# Altium integrated library Wuerth Elektronik SMD Power Choke.IntLib: 844 symbols (part 1 of 9)
Pins are listed as number, name and electrical type; pins without a type are passive.

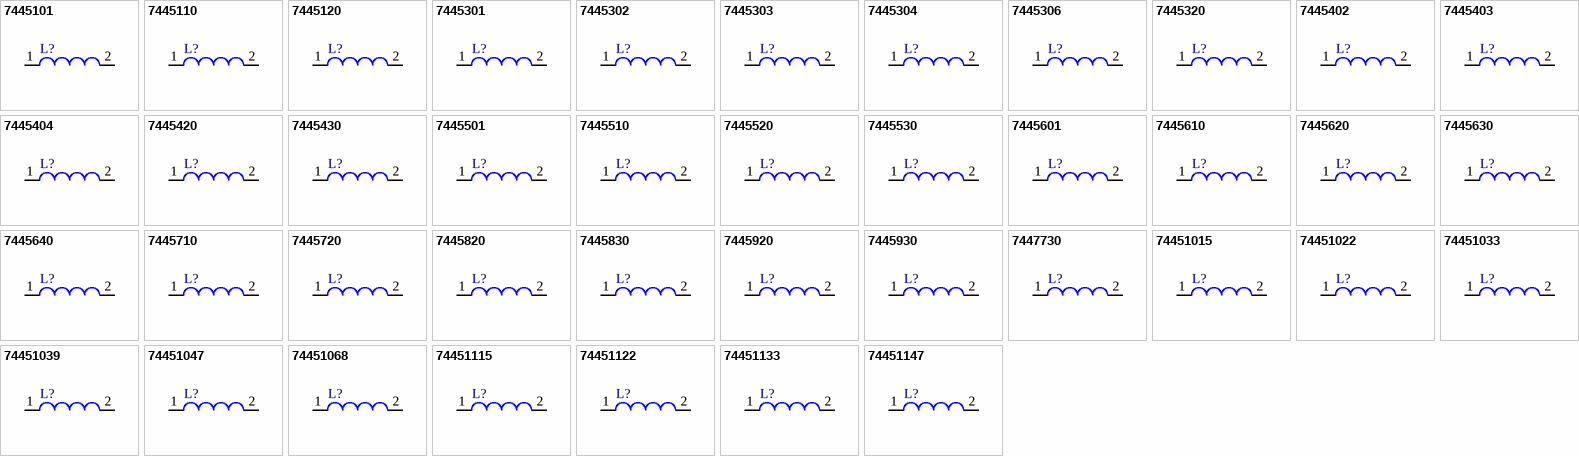
[diagram p0: symbols 7445101 to 74451147]

## 7445101
designator L?
SMD Shielded Power Inductor WE-PD3, L = 1.00 µH; Inductance: 1.00 µH; DatasheetVersion: ver 7, Feb-2009; PackageVersion: 2009; PackageReference: WE-PD3-S; PackageDescription: SMD Inductor, 2-Leads, Body 6.6 x 4.45 mm; ComponentLink1Description: Manufacturer URL; ComponentLink1URL: http://www.we-online.com; ComponentLink2Description: Datasheet; ComponentLink2URL: http://www.we-online.de/katalog/media/pdf/7445101.pdf
footprint WE-PD3-S (SMD Inductor, 2-Leads, Body 6.6x4.45x2.92 mm)
pins: 1, 2

## 7445110
designator L?
SMD Shielded Power Inductor WE-PD3, L = 10.0 µH; Inductance: 10.0 µH; DatasheetVersion: ver 7, Feb-2009; PackageVersion: 2009; PackageReference: WE-PD3-S; PackageDescription: SMD Inductor, 2-Leads, Body 6.6 x 4.45 mm; ComponentLink1Description: Manufacturer URL; ComponentLink1URL: http://www.we-online.com; ComponentLink2Description: Datasheet; ComponentLink2URL: http://www.we-online.de/katalog/media/pdf/7445110.pdf
footprint WE-PD3-S (SMD Inductor, 2-Leads, Body 6.6x4.45x2.92 mm)
pins: 1, 2

## 7445120
designator L?
SMD Shielded Power Inductor WE-PD3, L = 100 µH; Inductance: 100 µH; DatasheetVersion: ver 7, Feb-2009; PackageVersion: 2009; PackageReference: WE-PD3-S; PackageDescription: SMD Inductor, 2-Leads, Body 6.6 x 4.45 mm; ComponentLink1Description: Manufacturer URL; ComponentLink1URL: http://www.we-online.com; ComponentLink2Description: Datasheet; ComponentLink2URL: http://www.we-online.de/katalog/media/pdf/7445120.pdf
footprint WE-PD3-S (SMD Inductor, 2-Leads, Body 6.6x4.45x2.92 mm)
pins: 1, 2

## 7445301
designator L?
SMD Shielded Power Inductor WE-PD3, L = 1.50 µH; Inductance: 1.50 µH; DatasheetVersion: ver 1, Oct-2004; PackageVersion: 2004; PackageReference: WE-PD3-M; PackageDescription: SMD Inductor, 2-Leads, Body 12.7 x 10.3 mm; ComponentLink1Description: Manufacturer URL; ComponentLink1URL: http://www.we-online.com; ComponentLink2Description: Datasheet; ComponentLink2URL: http://www.we-online.de/katalog/media/pdf/7445301.pdf
footprint WE-PD3-M (SMD Inductor, 2-Leads, Body 12.7 x 10.3 mm)
pins: 1, 2

## 7445302
designator L?
SMD Shielded Power Inductor WE-PD3, L = 2.20 µH; Inductance: 2.20 µH; DatasheetVersion: ver 1, Oct-2004; PackageVersion: 2004; PackageReference: WE-PD3-M; PackageDescription: SMD Inductor, 2-Leads, Body 12.7 x 10.3 mm; ComponentLink1Description: Manufacturer URL; ComponentLink1URL: http://www.we-online.com; ComponentLink2Description: Datasheet; ComponentLink2URL: http://www.we-online.de/katalog/media/pdf/7445302.pdf
footprint WE-PD3-M (SMD Inductor, 2-Leads, Body 12.7 x 10.3 mm)
pins: 1, 2

## 7445303
designator L?
SMD Shielded Power Inductor WE-PD3, L = 3.90 µH; Inductance: 3.90 µH; DatasheetVersion: ver 1, Oct-2004; PackageVersion: 2004; PackageReference: WE-PD3-M; PackageDescription: SMD Inductor, 2-Leads, Body 12.7 x 10.3 mm; ComponentLink1Description: Manufacturer URL; ComponentLink1URL: http://www.we-online.com; ComponentLink2Description: Datasheet; ComponentLink2URL: http://www.we-online.de/katalog/media/pdf/7445303.pdf
footprint WE-PD3-M (SMD Inductor, 2-Leads, Body 12.7 x 10.3 mm)
pins: 1, 2

## 7445304
designator L?
SMD Shielded Power Inductor WE-PD3, L = 4.70 µH; Inductance: 4.70 µH; DatasheetVersion: ver 1, Oct-2004; PackageVersion: 2004; PackageReference: WE-PD3-M; PackageDescription: SMD Inductor, 2-Leads, Body 12.7 x 10.3 mm; ComponentLink1Description: Manufacturer URL; ComponentLink1URL: http://www.we-online.com; ComponentLink2Description: Datasheet; ComponentLink2URL: http://www.we-online.de/katalog/media/pdf/7445304.pdf
footprint WE-PD3-M (SMD Inductor, 2-Leads, Body 12.7 x 10.3 mm)
pins: 1, 2

## 7445306
designator L?
SMD Shielded Power Inductor WE-PD3, L = 6.80 µH; Inductance: 6.80 µH; DatasheetVersion: ver 2, May-2008; PackageVersion: 2004; PackageReference: WE-PD3-M; PackageDescription: SMD Inductor, 2-Leads, Body 12.7 x 10.3 mm; ComponentLink1Description: Manufacturer URL; ComponentLink1URL: http://www.we-online.com; ComponentLink2Description: Datasheet; ComponentLink2URL: http://www.we-online.de/katalog/media/pdf/7445306.pdf
footprint WE-PD3-M (SMD Inductor, 2-Leads, Body 12.7 x 10.3 mm)
pins: 1, 2

## 7445320
designator L?
SMD Shielded Power Inductor WE-PD3, L = 100 µH; Inductance: 100 µH; DatasheetVersion: ver 1, Oct-2004; PackageVersion: 2004; PackageReference: WE-PD3-M; PackageDescription: SMD Inductor, 2-Leads, Body 12.7 x 10.3 mm; ComponentLink1Description: Manufacturer URL; ComponentLink1URL: http://www.we-online.com; ComponentLink2Description: Datasheet; ComponentLink2URL: http://www.we-online.de/katalog/media/pdf/7445320.pdf
footprint WE-PD3-M (SMD Inductor, 2-Leads, Body 12.7 x 10.3 mm)
pins: 1, 2

## 7445402
designator L?
SMD Shielded Power Inductor WE-PD3, L = 2.20 µH; Inductance: 2.20 µH; DatasheetVersion: ver 2, Sep-2006; PackageVersion: 2006; PackageReference: WE-PD3-L; PackageDescription: SMD Inductor, 2-Leads, Body 12.7 x 10.0 mm; ComponentLink1Description: Manufacturer URL; ComponentLink1URL: http://www.we-online.com; ComponentLink2Description: Datasheet; ComponentLink2URL: http://www.we-online.de/katalog/media/pdf/7445402.pdf
footprint WE-PD3-L (SMD Inductor, 2-Leads, Body 12.7x10.0x5.2 mm)
pins: 1, 2

## 7445403
designator L?
SMD Shielded Power Inductor WE-PD3, L = 3.00 µH; Inductance: 3.00 µH; DatasheetVersion: ver 2, Sep-2006; PackageVersion: 2006; PackageReference: WE-PD3-L; PackageDescription: SMD Inductor, 2-Leads, Body 12.7 x 10.0 mm; ComponentLink1Description: Manufacturer URL; ComponentLink1URL: http://www.we-online.com; ComponentLink2Description: Datasheet; ComponentLink2URL: http://www.we-online.de/katalog/media/pdf/7445403.pdf
footprint WE-PD3-L (SMD Inductor, 2-Leads, Body 12.7x10.0x5.2 mm)
pins: 1, 2

## 7445404
designator L?
SMD Shielded Power Inductor WE-PD3, L = 4.70 µH; Inductance: 4.70 µH; DatasheetVersion: ver 2, Sep-2006; PackageVersion: 2006; PackageReference: WE-PD3-L; PackageDescription: SMD Inductor, 2-Leads, Body 12.7 x 10.0 mm; ComponentLink1Description: Manufacturer URL; ComponentLink1URL: http://www.we-online.com; ComponentLink2Description: Datasheet; ComponentLink2URL: http://www.we-online.de/katalog/media/pdf/7445404.pdf
footprint WE-PD3-L (SMD Inductor, 2-Leads, Body 12.7x10.0x5.2 mm)
pins: 1, 2

## 7445420
designator L?
SMD Shielded Power Inductor WE-PD3, L = 100 µH; Inductance: 100 µH; DatasheetVersion: ver 2, Sep-2006; PackageVersion: 2006; PackageReference: WE-PD3-L; PackageDescription: SMD Inductor, 2-Leads, Body 12.7 x 10.0 mm; ComponentLink1Description: Manufacturer URL; ComponentLink1URL: http://www.we-online.com; ComponentLink2Description: Datasheet; ComponentLink2URL: http://www.we-online.de/katalog/media/pdf/7445420.pdf
footprint WE-PD3-L (SMD Inductor, 2-Leads, Body 12.7x10.0x5.2 mm)
pins: 1, 2

## 7445430
designator L?
SMD Shielded Power Inductor WE-PD3, L = 1000 µH; Inductance: 1000 µH; DatasheetVersion: ver 2, Sep-2006; PackageVersion: 2006; PackageReference: WE-PD3-L; PackageDescription: SMD Inductor, 2-Leads, Body 12.7 x 10.0 mm; ComponentLink1Description: Manufacturer URL; ComponentLink1URL: http://www.we-online.com; ComponentLink2Description: Datasheet; ComponentLink2URL: http://www.we-online.de/katalog/media/pdf/7445430.pdf
footprint WE-PD3-L (SMD Inductor, 2-Leads, Body 12.7x10.0x5.2 mm)
pins: 1, 2

## 7445501
designator L?
SMD-Power Inductor WE-PD4, L = 1.00 µH; Inductance: 1.00 µH; DatasheetVersion: ver 2, Feb-2009; PackageVersion: 2009; PackageReference: WE-PD4-S; PackageDescription: SMD Inductor, 2-Leads, Body 6.6 x 4.45 mm; ComponentLink1Description: Manufacturer URL; ComponentLink1URL: http://www.we-online.com; ComponentLink2Description: Datasheet; ComponentLink2URL: http://www.we-online.de/katalog/media/pdf/7445501.pdf
footprint WE-PD4-S (SMD Inductor, 2-Leads, Body 6.6x4.45x2.92 mm)
pins: 1, 2

## 7445510
designator L?
SMD-Power Inductor WE-PD4, L = 10.0 µH; Inductance: 10.0 µH; DatasheetVersion: ver 2, Feb-2009; PackageVersion: 2009; PackageReference: WE-PD4-S; PackageDescription: SMD Inductor, 2-Leads, Body 6.6 x 4.45 mm; ComponentLink1Description: Manufacturer URL; ComponentLink1URL: http://www.we-online.com; ComponentLink2Description: Datasheet; ComponentLink2URL: http://www.we-online.de/katalog/media/pdf/7445510.pdf
footprint WE-PD4-S (SMD Inductor, 2-Leads, Body 6.6x4.45x2.92 mm)
pins: 1, 2

## 7445520
designator L?
SMD-Power Inductor WE-PD4, L = 100 µH; Inductance: 100 µH; DatasheetVersion: ver 2, Feb-2009; PackageVersion: 2009; PackageReference: WE-PD4-S; PackageDescription: SMD Inductor, 2-Leads, Body 6.6 x 4.45 mm; ComponentLink1Description: Manufacturer URL; ComponentLink1URL: http://www.we-online.com; ComponentLink2Description: Datasheet; ComponentLink2URL: http://www.we-online.de/katalog/media/pdf/7445520.pdf
footprint WE-PD4-S (SMD Inductor, 2-Leads, Body 6.6x4.45x2.92 mm)
pins: 1, 2

## 7445530
designator L?
SMD-Power Inductor WE-PD4, L = 1000 µH; Inductance: 1000 µH; DatasheetVersion: ver 2, Feb-2009; PackageVersion: 2009; PackageReference: WE-PD4-S; PackageDescription: SMD Inductor, 2-Leads, Body 6.6 x 4.45 mm; ComponentLink1Description: Manufacturer URL; ComponentLink1URL: http://www.we-online.com; ComponentLink2Description: Datasheet; ComponentLink2URL: http://www.we-online.de/katalog/media/pdf/7445530.pdf
footprint WE-PD4-S (SMD Inductor, 2-Leads, Body 6.6x4.45x2.92 mm)
pins: 1, 2

## 7445601
designator L?
SMD-Power Inductor WE-PD4, L = 1.00 µH; Inductance: 1.00 µH; DatasheetVersion: ver 2, Sep-2006; PackageVersion: 2006; PackageReference: WE-PD4-L; PackageDescription: SMD Inductor, 2-Leads, Body 12.7 x 10.0 mm; ComponentLink1Description: Manufacturer URL; ComponentLink1URL: http://www.we-online.com; ComponentLink2Description: Datasheet; ComponentLink2URL: http://www.we-online.de/katalog/media/pdf/7445601.pdf
footprint WE-PD4-L (SMD Inductor, 2-Leads, Body 12.7x10.0x5.3 mm)
pins: 1, 2

## 7445610
designator L?
SMD-Power Inductor WE-PD4, L = 10.0 µH; Inductance: 10.0 µH; DatasheetVersion: ver 2, Sep-2006; PackageVersion: 2006; PackageReference: WE-PD4-L; PackageDescription: SMD Inductor, 2-Leads, Body 12.7 x 10.0 mm; ComponentLink1Description: Manufacturer URL; ComponentLink1URL: http://www.we-online.com; ComponentLink2Description: Datasheet; ComponentLink2URL: http://www.we-online.de/katalog/media/pdf/7445610.pdf
footprint WE-PD4-L (SMD Inductor, 2-Leads, Body 12.7x10.0x5.3 mm)
pins: 1, 2

## 7445620
designator L?
SMD-Power Inductor WE-PD4, L = 100 µH; Inductance: 100 µH; DatasheetVersion: ver 2, Sep-2006; PackageVersion: 2006; PackageReference: WE-PD4-L; PackageDescription: SMD Inductor, 2-Leads, Body 12.7 x 10.0 mm; ComponentLink1Description: Manufacturer URL; ComponentLink1URL: http://www.we-online.com; ComponentLink2Description: Datasheet; ComponentLink2URL: http://www.we-online.de/katalog/media/pdf/7445620.pdf
footprint WE-PD4-L (SMD Inductor, 2-Leads, Body 12.7x10.0x5.3 mm)
pins: 1, 2

## 7445630
designator L?
SMD-Power Inductor WE-PD4, L = 1000 µH; Inductance: 1000 µH; DatasheetVersion: ver 2, Sep-2006; PackageVersion: 2006; PackageReference: WE-PD4-L; PackageDescription: SMD Inductor, 2-Leads, Body 12.7 x 10.0 mm; ComponentLink1Description: Manufacturer URL; ComponentLink1URL: http://www.we-online.com; ComponentLink2Description: Datasheet; ComponentLink2URL: http://www.we-online.de/katalog/media/pdf/7445630.pdf
footprint WE-PD4-L (SMD Inductor, 2-Leads, Body 12.7x10.0x5.3 mm)
pins: 1, 2

## 7445640
designator L?
SMD-Power Inductor WE-PD4, L = 10.0 mH; Inductance: 10.0 mH; DatasheetVersion: ver 2, Sep-2006; PackageVersion: 2006; PackageReference: WE-PD4-L; PackageDescription: SMD Inductor, 2-Leads, Body 12.7 x 10.0 mm; ComponentLink1Description: Manufacturer URL; ComponentLink1URL: http://www.we-online.com; ComponentLink2Description: Datasheet; ComponentLink2URL: http://www.we-online.de/katalog/media/pdf/7445640.pdf
footprint WE-PD4-L (SMD Inductor, 2-Leads, Body 12.7x10.0x5.3 mm)
pins: 1, 2

## 7445710
designator L?
SMD-Power Inductor WE-PD4, L = 10.0 µH; Inductance: 10.0 µH; DatasheetVersion: ver 1, Oct-2004; PackageVersion: 2004; PackageReference: WE-PD4-XL; PackageDescription: SMD Inductor, 2-Leads, Body 22.0 x 15.0 mm; ComponentLink1Description: Manufacturer URL; ComponentLink1URL: http://www.we-online.com; ComponentLink2Description: Datasheet; ComponentLink2URL: http://www.we-online.de/katalog/media/pdf/7445710.pdf
footprint WE-PD4-XL (SMD Inductor, 2-Leads, Body 22.0x15.0x7.8 mm)
pins: 1, 2

## 7445720
designator L?
SMD-Power Inductor WE-PD4, L = 100 µH; Inductance: 100 µH; DatasheetVersion: ver 1, Oct-2004; PackageVersion: 2004; PackageReference: WE-PD4-XL; PackageDescription: SMD Inductor, 2-Leads, Body 22.0 x 15.0 mm; ComponentLink1Description: Manufacturer URL; ComponentLink1URL: http://www.we-online.com; ComponentLink2Description: Datasheet; ComponentLink2URL: http://www.we-online.de/katalog/media/pdf/7445720.pdf
footprint WE-PD4-XL (SMD Inductor, 2-Leads, Body 22.0x15.0x7.8 mm)
pins: 1, 2

## 7445820
designator L?
SMD-Power Inductor WE-PD4, L = 100 µH; Inductance: 100 µH; DatasheetVersion: ver 1, Oct-2004; PackageVersion: 2004; PackageReference: WE-PD4-X; PackageDescription: SMD Inductor, 2-Leads, Body 18.54 x 15.24 mm; ComponentLink1Description: Manufacturer URL; ComponentLink1URL: http://www.we-online.com; ComponentLink2Description: Datasheet; ComponentLink2URL: http://www.we-online.de/katalog/media/pdf/7445820.pdf
footprint WE-PD4-X (SMD Inductor, 2-Leads, Body 18.54x15.24x7.11 mm)
pins: 1, 2

## 7445830
designator L?
SMD-Power Inductor WE-PD4, L = 1000 µH; Inductance: 1000 µH; DatasheetVersion: ver 1, Oct-2004; PackageVersion: 2004; PackageReference: WE-PD4-X; PackageDescription: SMD Inductor, 2-Leads, Body 18.54 x 15.24 mm; ComponentLink1Description: Manufacturer URL; ComponentLink1URL: http://www.we-online.com; ComponentLink2Description: Datasheet; ComponentLink2URL: http://www.we-online.de/katalog/media/pdf/7445830.pdf
footprint WE-PD4-X (SMD Inductor, 2-Leads, Body 18.54x15.24x7.11 mm)
pins: 1, 2

## 7445920
designator L?
SMD Shielded Power Inductor WE-PD3, L = 100 µH; Inductance: 100 µH; DatasheetVersion: ver 1, Oct-2004; PackageVersion: 2004; PackageReference: WE-PD3-X; PackageDescription: SMD Inductor, 2-Leads, Body 18.54 x 15.24 mm; ComponentLink1Description: Manufacturer URL; ComponentLink1URL: http://www.we-online.com; ComponentLink2Description: Datasheet; ComponentLink2URL: http://www.we-online.de/katalog/media/pdf/7445920.pdf
footprint WE-PD3-X (SMD Inductor, 2-Leads, Body 18.54x15.24x7.62 mm)
pins: 1, 2

## 7445930
designator L?
SMD Shielded Power Inductor WE-PD3, L = 1000 µH; Inductance: 1000 µH; DatasheetVersion: ver 1, Oct-2004; PackageVersion: 2004; PackageReference: WE-PD3-X; PackageDescription: SMD Inductor, 2-Leads, Body 18.54 x 15.24 mm; ComponentLink1Description: Manufacturer URL; ComponentLink1URL: http://www.we-online.com; ComponentLink2Description: Datasheet; ComponentLink2URL: http://www.we-online.de/katalog/media/pdf/7445930.pdf
footprint WE-PD3-X (SMD Inductor, 2-Leads, Body 18.54x15.24x7.62 mm)
pins: 1, 2

## 7447730
designator L?
SMD Power Inductor WE-PD2, L = 1.00 µH; Inductance: 1.00 µH; DatasheetVersion: ver 1, Oct-2004; PackageVersion: 2004; PackageReference: WE-PD2-S; PackageDescription: SMD Inductor, 2-Leads, Body 4.5 x 4.0 mm; ComponentLink1Description: Manufacturer URL; ComponentLink1URL: http://www.we-online.com; ComponentLink2Description: Datasheet; ComponentLink2URL: http://www.we-online.de/katalog/media/pdf/7447730.pdf
footprint WE-PD2-S (SMD Inductor, 2-Leads, Body 4.5x4.0x3.5 mm)
pins: 1, 2

## 74451015
designator L?
SMD Shielded Power Inductor WE-PD3, L = 1.50 µH; Inductance: 1.50 µH; DatasheetVersion: ver 7, Feb-2009; PackageVersion: 2009; PackageReference: WE-PD3-S; PackageDescription: SMD Inductor, 2-Leads, Body 6.6 x 4.45 mm; ComponentLink1Description: Manufacturer URL; ComponentLink1URL: http://www.we-online.com; ComponentLink2Description: Datasheet; ComponentLink2URL: http://www.we-online.de/katalog/media/pdf/74451015.pdf
footprint WE-PD3-S (SMD Inductor, 2-Leads, Body 6.6x4.45x2.92 mm)
pins: 1, 2

## 74451022
designator L?
SMD Shielded Power Inductor WE-PD3, L = 2.20 µH; Inductance: 2.20 µH; DatasheetVersion: ver 7, Feb-2009; PackageVersion: 2009; PackageReference: WE-PD3-S; PackageDescription: SMD Inductor, 2-Leads, Body 6.6 x 4.45 mm; ComponentLink1Description: Manufacturer URL; ComponentLink1URL: http://www.we-online.com; ComponentLink2Description: Datasheet; ComponentLink2URL: http://www.we-online.de/katalog/media/pdf/74451022.pdf
footprint WE-PD3-S (SMD Inductor, 2-Leads, Body 6.6x4.45x2.92 mm)
pins: 1, 2

## 74451033
designator L?
SMD Shielded Power Inductor WE-PD3, L = 3.30 µH; Inductance: 3.30 µH; DatasheetVersion: ver 7, Feb-2009; PackageVersion: 2009; PackageReference: WE-PD3-S; PackageDescription: SMD Inductor, 2-Leads, Body 6.6 x 4.45 mm; ComponentLink1Description: Manufacturer URL; ComponentLink1URL: http://www.we-online.com; ComponentLink2Description: Datasheet; ComponentLink2URL: http://www.we-online.de/katalog/media/pdf/74451033.pdf
footprint WE-PD3-S (SMD Inductor, 2-Leads, Body 6.6x4.45x2.92 mm)
pins: 1, 2

## 74451039
designator L?
SMD Shielded Power Inductor WE-PD3, L = 3.90 µH; Inductance: 3.90 µH; DatasheetVersion: ver 7, Feb-2009; PackageVersion: 2009; PackageReference: WE-PD3-S; PackageDescription: SMD Inductor, 2-Leads, Body 6.6 x 4.45 mm; ComponentLink1Description: Manufacturer URL; ComponentLink1URL: http://www.we-online.com; ComponentLink2Description: Datasheet; ComponentLink2URL: http://www.we-online.de/katalog/media/pdf/74451039.pdf
footprint WE-PD3-S (SMD Inductor, 2-Leads, Body 6.6x4.45x2.92 mm)
pins: 1, 2

## 74451047
designator L?
SMD Shielded Power Inductor WE-PD3, L = 4.70 µH; Inductance: 4.70 µH; DatasheetVersion: ver 7, Feb-2009; PackageVersion: 2009; PackageReference: WE-PD3-S; PackageDescription: SMD Inductor, 2-Leads, Body 6.6 x 4.45 mm; ComponentLink1Description: Manufacturer URL; ComponentLink1URL: http://www.we-online.com; ComponentLink2Description: Datasheet; ComponentLink2URL: http://www.we-online.de/katalog/media/pdf/74451047.pdf
footprint WE-PD3-S (SMD Inductor, 2-Leads, Body 6.6x4.45x2.92 mm)
pins: 1, 2

## 74451068
designator L?
SMD Shielded Power Inductor WE-PD3, L = 6.80 µH; Inductance: 6.80 µH; DatasheetVersion: ver 7, Feb-2009; PackageVersion: 2009; PackageReference: WE-PD3-S; PackageDescription: SMD Inductor, 2-Leads, Body 6.6 x 4.45 mm; ComponentLink1Description: Manufacturer URL; ComponentLink1URL: http://www.we-online.com; ComponentLink2Description: Datasheet; ComponentLink2URL: http://www.we-online.de/katalog/media/pdf/74451068.pdf
footprint WE-PD3-S (SMD Inductor, 2-Leads, Body 6.6x4.45x2.92 mm)
pins: 1, 2

## 74451115
designator L?
SMD Shielded Power Inductor WE-PD3, L = 15.0 µH; Inductance: 15.0 µH; DatasheetVersion: ver 7, Feb-2009; PackageVersion: 2009; PackageReference: WE-PD3-S; PackageDescription: SMD Inductor, 2-Leads, Body 6.6 x 4.45 mm; ComponentLink1Description: Manufacturer URL; ComponentLink1URL: http://www.we-online.com; ComponentLink2Description: Datasheet; ComponentLink2URL: http://www.we-online.de/katalog/media/pdf/74451115.pdf
footprint WE-PD3-S (SMD Inductor, 2-Leads, Body 6.6x4.45x2.92 mm)
pins: 1, 2

## 74451122
designator L?
SMD Shielded Power Inductor WE-PD3, L = 22.0 µH; Inductance: 22.0 µH; DatasheetVersion: ver 7, Feb-2009; PackageVersion: 2009; PackageReference: WE-PD3-S; PackageDescription: SMD Inductor, 2-Leads, Body 6.6 x 4.45 mm; ComponentLink1Description: Manufacturer URL; ComponentLink1URL: http://www.we-online.com; ComponentLink2Description: Datasheet; ComponentLink2URL: http://www.we-online.de/katalog/media/pdf/74451122.pdf
footprint WE-PD3-S (SMD Inductor, 2-Leads, Body 6.6x4.45x2.92 mm)
pins: 1, 2

## 74451133
designator L?
SMD Shielded Power Inductor WE-PD3, L = 33.0 µH; Inductance: 33.0 µH; DatasheetVersion: ver 7, Feb-2009; PackageVersion: 2009; PackageReference: WE-PD3-S; PackageDescription: SMD Inductor, 2-Leads, Body 6.6 x 4.45 mm; ComponentLink1Description: Manufacturer URL; ComponentLink1URL: http://www.we-online.com; ComponentLink2Description: Datasheet; ComponentLink2URL: http://www.we-online.de/katalog/media/pdf/74451133.pdf
footprint WE-PD3-S (SMD Inductor, 2-Leads, Body 6.6x4.45x2.92 mm)
pins: 1, 2

## 74451147
designator L?
SMD Shielded Power Inductor WE-PD3, L = 47.0 µH; Inductance: 47.0 µH; DatasheetVersion: ver 7, Feb-2009; PackageVersion: 2009; PackageReference: WE-PD3-S; PackageDescription: SMD Inductor, 2-Leads, Body 6.6 x 4.45 mm; ComponentLink1Description: Manufacturer URL; ComponentLink1URL: http://www.we-online.com; ComponentLink2Description: Datasheet; ComponentLink2URL: http://www.we-online.de/katalog/media/pdf/74451147.pdf
footprint WE-PD3-S (SMD Inductor, 2-Leads, Body 6.6x4.45x2.92 mm)
pins: 1, 2

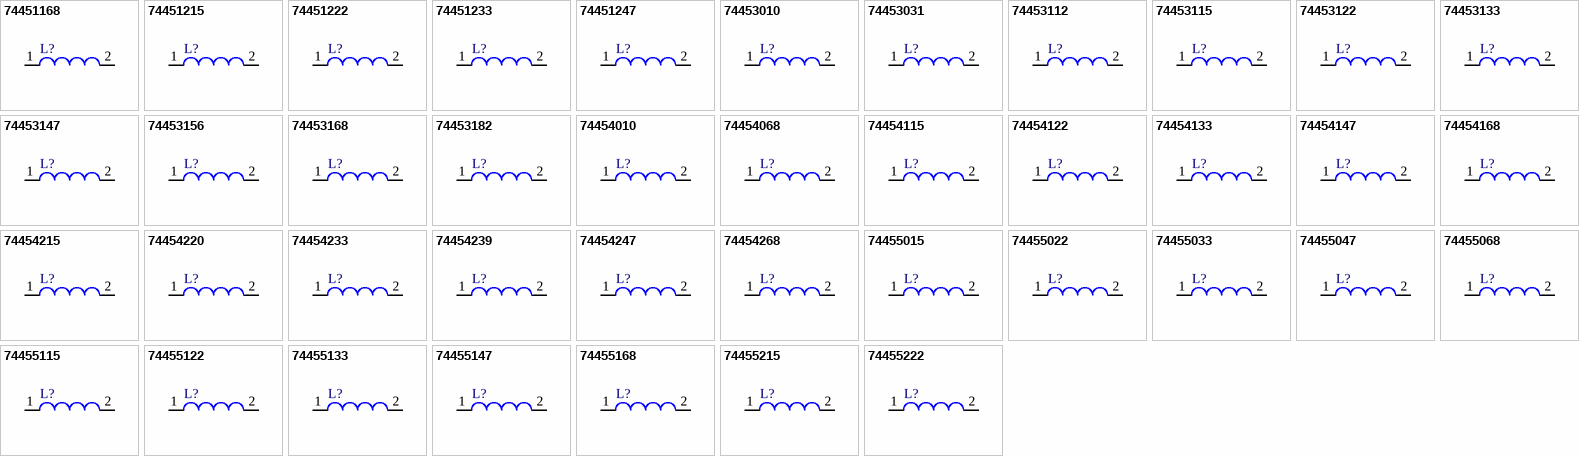
[diagram p1: symbols 74451168 to 74455222]

## 74451168
designator L?
SMD Shielded Power Inductor WE-PD3, L = 68.0 µH; Inductance: 68.0 µH; DatasheetVersion: ver 7, Feb-2009; PackageVersion: 2009; PackageReference: WE-PD3-S; PackageDescription: SMD Inductor, 2-Leads, Body 6.6 x 4.45 mm; ComponentLink1Description: Manufacturer URL; ComponentLink1URL: http://www.we-online.com; ComponentLink2Description: Datasheet; ComponentLink2URL: http://www.we-online.de/katalog/media/pdf/74451168.pdf
footprint WE-PD3-S (SMD Inductor, 2-Leads, Body 6.6x4.45x2.92 mm)
pins: 1, 2

## 74451215
designator L?
SMD Shielded Power Inductor WE-PD3, L = 150 µH; Inductance: 150 µH; DatasheetVersion: ver 7, Feb-2009; PackageVersion: 2009; PackageReference: WE-PD3-S; PackageDescription: SMD Inductor, 2-Leads, Body 6.6 x 4.45 mm; ComponentLink1Description: Manufacturer URL; ComponentLink1URL: http://www.we-online.com; ComponentLink2Description: Datasheet; ComponentLink2URL: http://www.we-online.de/katalog/media/pdf/74451215.pdf
footprint WE-PD3-S (SMD Inductor, 2-Leads, Body 6.6x4.45x2.92 mm)
pins: 1, 2

## 74451222
designator L?
SMD Shielded Power Inductor WE-PD3, L = 220 µH; Inductance: 220 µH; DatasheetVersion: ver 7, Feb-2009; PackageVersion: 2009; PackageReference: WE-PD3-S; PackageDescription: SMD Inductor, 2-Leads, Body 6.6 x 4.45 mm; ComponentLink1Description: Manufacturer URL; ComponentLink1URL: http://www.we-online.com; ComponentLink2Description: Datasheet; ComponentLink2URL: http://www.we-online.de/katalog/media/pdf/74451222.pdf
footprint WE-PD3-S (SMD Inductor, 2-Leads, Body 6.6x4.45x2.92 mm)
pins: 1, 2

## 74451233
designator L?
SMD Shielded Power Inductor WE-PD3, L = 330 µH; Inductance: 330 µH; DatasheetVersion: ver 7, Feb-2009; PackageVersion: 2009; PackageReference: WE-PD3-S; PackageDescription: SMD Inductor, 2-Leads, Body 6.6 x 4.45 mm; ComponentLink1Description: Manufacturer URL; ComponentLink1URL: http://www.we-online.com; ComponentLink2Description: Datasheet; ComponentLink2URL: http://www.we-online.de/katalog/media/pdf/74451233.pdf
footprint WE-PD3-S (SMD Inductor, 2-Leads, Body 6.6x4.45x2.92 mm)
pins: 1, 2

## 74451247
designator L?
SMD Shielded Power Inductor WE-PD3, L = 470 µH; Inductance: 470 µH; DatasheetVersion: ver 7, Feb-2009; PackageVersion: 2009; PackageReference: WE-PD3-S; PackageDescription: SMD Inductor, 2-Leads, Body 6.6 x 4.45 mm; ComponentLink1Description: Manufacturer URL; ComponentLink1URL: http://www.we-online.com; ComponentLink2Description: Datasheet; ComponentLink2URL: http://www.we-online.de/katalog/media/pdf/74451247.pdf
footprint WE-PD3-S (SMD Inductor, 2-Leads, Body 6.6x4.45x2.92 mm)
pins: 1, 2

## 74453010
designator L?
SMD Shielded Power Inductor WE-PD3, L = 10.0 µH; Inductance: 10.0 µH; DatasheetVersion: ver 1, Oct-2004; PackageVersion: 2004; PackageReference: WE-PD3-M; PackageDescription: SMD Inductor, 2-Leads, Body 12.7 x 10.3 mm; ComponentLink1Description: Manufacturer URL; ComponentLink1URL: http://www.we-online.com; ComponentLink2Description: Datasheet; ComponentLink2URL: http://www.we-online.de/katalog/media/pdf/74453010.pdf
footprint WE-PD3-M (SMD Inductor, 2-Leads, Body 12.7 x 10.3 mm)
pins: 1, 2

## 74453031
designator L?
SMD Shielded Power Inductor WE-PD3, L = 3.30 µH; Inductance: 3.30 µH; DatasheetVersion: ver 1, Oct-2004; PackageVersion: 2004; PackageReference: WE-PD3-M; PackageDescription: SMD Inductor, 2-Leads, Body 12.7 x 10.3 mm; ComponentLink1Description: Manufacturer URL; ComponentLink1URL: http://www.we-online.com; ComponentLink2Description: Datasheet; ComponentLink2URL: http://www.we-online.de/katalog/media/pdf/74453031.pdf
footprint WE-PD3-M (SMD Inductor, 2-Leads, Body 12.7 x 10.3 mm)
pins: 1, 2

## 74453112
designator L?
SMD Shielded Power Inductor WE-PD3, L = 12.0 µH; Inductance: 12.0 µH; DatasheetVersion: ver 1, Oct-2004; PackageVersion: 2004; PackageReference: WE-PD3-M; PackageDescription: SMD Inductor, 2-Leads, Body 12.7 x 10.3 mm; ComponentLink1Description: Manufacturer URL; ComponentLink1URL: http://www.we-online.com; ComponentLink2Description: Datasheet; ComponentLink2URL: http://www.we-online.de/katalog/media/pdf/74453112.pdf
footprint WE-PD3-M (SMD Inductor, 2-Leads, Body 12.7 x 10.3 mm)
pins: 1, 2

## 74453115
designator L?
SMD Shielded Power Inductor WE-PD3, L = 15.0 µH; Inductance: 15.0 µH; DatasheetVersion: ver 1, Oct-2004; PackageVersion: 2004; PackageReference: WE-PD3-M; PackageDescription: SMD Inductor, 2-Leads, Body 12.7 x 10.3 mm; ComponentLink1Description: Manufacturer URL; ComponentLink1URL: http://www.we-online.com; ComponentLink2Description: Datasheet; ComponentLink2URL: http://www.we-online.de/katalog/media/pdf/74453115.pdf
footprint WE-PD3-M (SMD Inductor, 2-Leads, Body 12.7 x 10.3 mm)
pins: 1, 2

## 74453122
designator L?
SMD Shielded Power Inductor WE-PD3, L = 22.0 µH; Inductance: 22.0 µH; DatasheetVersion: ver 1, Oct-2004; PackageVersion: 2004; PackageReference: WE-PD3-M; PackageDescription: SMD Inductor, 2-Leads, Body 12.7 x 10.3 mm; ComponentLink1Description: Manufacturer URL; ComponentLink1URL: http://www.we-online.com; ComponentLink2Description: Datasheet; ComponentLink2URL: http://www.we-online.de/katalog/media/pdf/74453122.pdf
footprint WE-PD3-M (SMD Inductor, 2-Leads, Body 12.7 x 10.3 mm)
pins: 1, 2

## 74453133
designator L?
SMD Shielded Power Inductor WE-PD3, L = 33.0 µH; Inductance: 33.0 µH; DatasheetVersion: ver 1, Oct-2004; PackageVersion: 2004; PackageReference: WE-PD3-M; PackageDescription: SMD Inductor, 2-Leads, Body 12.7 x 10.3 mm; ComponentLink1Description: Manufacturer URL; ComponentLink1URL: http://www.we-online.com; ComponentLink2Description: Datasheet; ComponentLink2URL: http://www.we-online.de/katalog/media/pdf/74453133.pdf
footprint WE-PD3-M (SMD Inductor, 2-Leads, Body 12.7 x 10.3 mm)
pins: 1, 2

## 74453147
designator L?
SMD Shielded Power Inductor WE-PD3, L = 47.0 µH; Inductance: 47.0 µH; DatasheetVersion: ver 1, Oct-2004; PackageVersion: 2004; PackageReference: WE-PD3-M; PackageDescription: SMD Inductor, 2-Leads, Body 12.7 x 10.3 mm; ComponentLink1Description: Manufacturer URL; ComponentLink1URL: http://www.we-online.com; ComponentLink2Description: Datasheet; ComponentLink2URL: http://www.we-online.de/katalog/media/pdf/74453147.pdf
footprint WE-PD3-M (SMD Inductor, 2-Leads, Body 12.7 x 10.3 mm)
pins: 1, 2

## 74453156
designator L?
SMD Shielded Power Inductor WE-PD3, L = 56.0 µH; Inductance: 56.0 µH; DatasheetVersion: ver 1, Oct-2004; PackageVersion: 2004; PackageReference: WE-PD3-M; PackageDescription: SMD Inductor, 2-Leads, Body 12.7 x 10.3 mm; ComponentLink1Description: Manufacturer URL; ComponentLink1URL: http://www.we-online.com; ComponentLink2Description: Datasheet; ComponentLink2URL: http://www.we-online.de/katalog/media/pdf/74453156.pdf
footprint WE-PD3-M (SMD Inductor, 2-Leads, Body 12.7 x 10.3 mm)
pins: 1, 2

## 74453168
designator L?
SMD Shielded Power Inductor WE-PD3, L = 68.0 µH; Inductance: 68.0 µH; DatasheetVersion: ver 1, Oct-2004; PackageVersion: 2004; PackageReference: WE-PD3-M; PackageDescription: SMD Inductor, 2-Leads, Body 12.7 x 10.3 mm; ComponentLink1Description: Manufacturer URL; ComponentLink1URL: http://www.we-online.com; ComponentLink2Description: Datasheet; ComponentLink2URL: http://www.we-online.de/katalog/media/pdf/74453168.pdf
footprint WE-PD3-M (SMD Inductor, 2-Leads, Body 12.7 x 10.3 mm)
pins: 1, 2

## 74453182
designator L?
SMD Shielded Power Inductor WE-PD3, L = 82.0 µH; Inductance: 82.0 µH; DatasheetVersion: ver 1, Oct-2004; PackageVersion: 2004; PackageReference: WE-PD3-M; PackageDescription: SMD Inductor, 2-Leads, Body 12.7 x 10.3 mm; ComponentLink1Description: Manufacturer URL; ComponentLink1URL: http://www.we-online.com; ComponentLink2Description: Datasheet; ComponentLink2URL: http://www.we-online.de/katalog/media/pdf/74453182.pdf
footprint WE-PD3-M (SMD Inductor, 2-Leads, Body 12.7 x 10.3 mm)
pins: 1, 2

## 74454010
designator L?
SMD Shielded Power Inductor WE-PD3, L = 10.0 µH; Inductance: 10.0 µH; DatasheetVersion: ver 2, Sep-2006; PackageVersion: 2006; PackageReference: WE-PD3-L; PackageDescription: SMD Inductor, 2-Leads, Body 12.7 x 10.0 mm; ComponentLink1Description: Manufacturer URL; ComponentLink1URL: http://www.we-online.com; ComponentLink2Description: Datasheet; ComponentLink2URL: http://www.we-online.de/katalog/media/pdf/74454010.pdf
footprint WE-PD3-L (SMD Inductor, 2-Leads, Body 12.7x10.0x5.2 mm)
pins: 1, 2

## 74454068
designator L?
SMD Shielded Power Inductor WE-PD3, L = 6.80 µH; Inductance: 6.80 µH; DatasheetVersion: ver 3, Aug-2009; PackageVersion: 2006; PackageReference: WE-PD3-L; PackageDescription: SMD Inductor, 2-Leads, Body 12.7 x 10.0 mm; ComponentLink1Description: Manufacturer URL; ComponentLink1URL: http://www.we-online.com; ComponentLink2Description: Datasheet; ComponentLink2URL: http://www.we-online.de/katalog/media/pdf/74454068.pdf
footprint WE-PD3-L (SMD Inductor, 2-Leads, Body 12.7x10.0x5.2 mm)
pins: 1, 2

## 74454115
designator L?
SMD Shielded Power Inductor WE-PD3, L = 15.0 µH; Inductance: 15.0 µH; DatasheetVersion: ver 2, Sep-2006; PackageVersion: 2006; PackageReference: WE-PD3-L; PackageDescription: SMD Inductor, 2-Leads, Body 12.7 x 10.0 mm; ComponentLink1Description: Manufacturer URL; ComponentLink1URL: http://www.we-online.com; ComponentLink2Description: Datasheet; ComponentLink2URL: http://www.we-online.de/katalog/media/pdf/74454115.pdf
footprint WE-PD3-L (SMD Inductor, 2-Leads, Body 12.7x10.0x5.2 mm)
pins: 1, 2

## 74454122
designator L?
SMD Shielded Power Inductor WE-PD3, L = 22.0 µH; Inductance: 22.0 µH; DatasheetVersion: ver 2, Sep-2006; PackageVersion: 2006; PackageReference: WE-PD3-L; PackageDescription: SMD Inductor, 2-Leads, Body 12.7 x 10.0 mm; ComponentLink1Description: Manufacturer URL; ComponentLink1URL: http://www.we-online.com; ComponentLink2Description: Datasheet; ComponentLink2URL: http://www.we-online.de/katalog/media/pdf/74454122.pdf
footprint WE-PD3-L (SMD Inductor, 2-Leads, Body 12.7x10.0x5.2 mm)
pins: 1, 2

## 74454133
designator L?
SMD Shielded Power Inductor WE-PD3, L = 33.0 µH; Inductance: 33.0 µH; DatasheetVersion: ver 2, Sep-2006; PackageVersion: 2006; PackageReference: WE-PD3-L; PackageDescription: SMD Inductor, 2-Leads, Body 12.7 x 10.0 mm; ComponentLink1Description: Manufacturer URL; ComponentLink1URL: http://www.we-online.com; ComponentLink2Description: Datasheet; ComponentLink2URL: http://www.we-online.de/katalog/media/pdf/74454133.pdf
footprint WE-PD3-L (SMD Inductor, 2-Leads, Body 12.7x10.0x5.2 mm)
pins: 1, 2

## 74454147
designator L?
SMD Shielded Power Inductor WE-PD3, L = 47.0 µH; Inductance: 47.0 µH; DatasheetVersion: ver 2, Sep-2006; PackageVersion: 2006; PackageReference: WE-PD3-L; PackageDescription: SMD Inductor, 2-Leads, Body 12.7 x 10.0 mm; ComponentLink1Description: Manufacturer URL; ComponentLink1URL: http://www.we-online.com; ComponentLink2Description: Datasheet; ComponentLink2URL: http://www.we-online.de/katalog/media/pdf/74454147.pdf
footprint WE-PD3-L (SMD Inductor, 2-Leads, Body 12.7x10.0x5.2 mm)
pins: 1, 2

## 74454168
designator L?
SMD Shielded Power Inductor WE-PD3, L = 68.0 µH; Inductance: 68.0 µH; DatasheetVersion: ver 2, Sep-2006; PackageVersion: 2006; PackageReference: WE-PD3-L; PackageDescription: SMD Inductor, 2-Leads, Body 12.7 x 10.0 mm; ComponentLink1Description: Manufacturer URL; ComponentLink1URL: http://www.we-online.com; ComponentLink2Description: Datasheet; ComponentLink2URL: http://www.we-online.de/katalog/media/pdf/74454168.pdf
footprint WE-PD3-L (SMD Inductor, 2-Leads, Body 12.7x10.0x5.2 mm)
pins: 1, 2

## 74454215
designator L?
SMD Shielded Power Inductor WE-PD3, L = 150 µH; Inductance: 150 µH; DatasheetVersion: ver 2, Sep-2006; PackageVersion: 2006; PackageReference: WE-PD3-L; PackageDescription: SMD Inductor, 2-Leads, Body 12.7 x 10.0 mm; ComponentLink1Description: Manufacturer URL; ComponentLink1URL: http://www.we-online.com; ComponentLink2Description: Datasheet; ComponentLink2URL: http://www.we-online.de/katalog/media/pdf/74454215.pdf
footprint WE-PD3-L (SMD Inductor, 2-Leads, Body 12.7x10.0x5.2 mm)
pins: 1, 2

## 74454220
designator L?
SMD Shielded Power Inductor WE-PD3, L = 220 µH; Inductance: 220 µH; DatasheetVersion: ver 2, Sep-2006; PackageVersion: 2006; PackageReference: WE-PD3-L; PackageDescription: SMD Inductor, 2-Leads, Body 12.7 x 10.0 mm; ComponentLink1Description: Manufacturer URL; ComponentLink1URL: http://www.we-online.com; ComponentLink2Description: Datasheet; ComponentLink2URL: http://www.we-online.de/katalog/media/pdf/74454220.pdf
footprint WE-PD3-L (SMD Inductor, 2-Leads, Body 12.7x10.0x5.2 mm)
pins: 1, 2

## 74454233
designator L?
SMD Shielded Power Inductor WE-PD3, L = 330 µH; Inductance: 330 µH; DatasheetVersion: ver 2, Sep-2006; PackageVersion: 2006; PackageReference: WE-PD3-L; PackageDescription: SMD Inductor, 2-Leads, Body 12.7 x 10.0 mm; ComponentLink1Description: Manufacturer URL; ComponentLink1URL: http://www.we-online.com; ComponentLink2Description: Datasheet; ComponentLink2URL: http://www.we-online.de/katalog/media/pdf/74454233.pdf
footprint WE-PD3-L (SMD Inductor, 2-Leads, Body 12.7x10.0x5.2 mm)
pins: 1, 2

## 74454239
designator L?
SMD Shielded Power Inductor WE-PD3, L = 390 µH; Inductance: 390 µH; DatasheetVersion: ver 2, Sep-2006; PackageVersion: 2006; PackageReference: WE-PD3-L; PackageDescription: SMD Inductor, 2-Leads, Body 12.7 x 10.0 mm; ComponentLink1Description: Manufacturer URL; ComponentLink1URL: http://www.we-online.com; ComponentLink2Description: Datasheet; ComponentLink2URL: http://www.we-online.de/katalog/media/pdf/74454239.pdf
footprint WE-PD3-L (SMD Inductor, 2-Leads, Body 12.7x10.0x5.2 mm)
pins: 1, 2

## 74454247
designator L?
SMD Shielded Power Inductor WE-PD3, L = 470 µH; Inductance: 470 µH; DatasheetVersion: ver 2, Sep-2006; PackageVersion: 2006; PackageReference: WE-PD3-L; PackageDescription: SMD Inductor, 2-Leads, Body 12.7 x 10.0 mm; ComponentLink1Description: Manufacturer URL; ComponentLink1URL: http://www.we-online.com; ComponentLink2Description: Datasheet; ComponentLink2URL: http://www.we-online.de/katalog/media/pdf/74454247.pdf
footprint WE-PD3-L (SMD Inductor, 2-Leads, Body 12.7x10.0x5.2 mm)
pins: 1, 2

## 74454268
designator L?
SMD Shielded Power Inductor WE-PD3, L = 680 µH; Inductance: 680 µH; DatasheetVersion: ver 2, Sep-2006; PackageVersion: 2006; PackageReference: WE-PD3-L; PackageDescription: SMD Inductor, 2-Leads, Body 12.7 x 10.0 mm; ComponentLink1Description: Manufacturer URL; ComponentLink1URL: http://www.we-online.com; ComponentLink2Description: Datasheet; ComponentLink2URL: http://www.we-online.de/katalog/media/pdf/74454268.pdf
footprint WE-PD3-L (SMD Inductor, 2-Leads, Body 12.7x10.0x5.2 mm)
pins: 1, 2

## 74455015
designator L?
SMD-Power Inductor WE-PD4, L = 1.50 µH; Inductance: 1.50 µH; DatasheetVersion: ver 2, Feb-2009; PackageVersion: 2009; PackageReference: WE-PD4-S; PackageDescription: SMD Inductor, 2-Leads, Body 6.6 x 4.45 mm; ComponentLink1Description: Manufacturer URL; ComponentLink1URL: http://www.we-online.com; ComponentLink2Description: Datasheet; ComponentLink2URL: http://www.we-online.de/katalog/media/pdf/74455015.pdf
footprint WE-PD4-S (SMD Inductor, 2-Leads, Body 6.6x4.45x2.92 mm)
pins: 1, 2

## 74455022
designator L?
SMD-Power Inductor WE-PD4, L = 2.20 µH; Inductance: 2.20 µH; DatasheetVersion: ver 2, Feb-2009; PackageVersion: 2009; PackageReference: WE-PD4-S; PackageDescription: SMD Inductor, 2-Leads, Body 6.6 x 4.45 mm; ComponentLink1Description: Manufacturer URL; ComponentLink1URL: http://www.we-online.com; ComponentLink2Description: Datasheet; ComponentLink2URL: http://www.we-online.de/katalog/media/pdf/74455022.pdf
footprint WE-PD4-S (SMD Inductor, 2-Leads, Body 6.6x4.45x2.92 mm)
pins: 1, 2

## 74455033
designator L?
SMD-Power Inductor WE-PD4, L = 3.30 µH; Inductance: 3.30 µH; DatasheetVersion: ver 2, Feb-2009; PackageVersion: 2009; PackageReference: WE-PD4-S; PackageDescription: SMD Inductor, 2-Leads, Body 6.6 x 4.45 mm; ComponentLink1Description: Manufacturer URL; ComponentLink1URL: http://www.we-online.com; ComponentLink2Description: Datasheet; ComponentLink2URL: http://www.we-online.de/katalog/media/pdf/74455033.pdf
footprint WE-PD4-S (SMD Inductor, 2-Leads, Body 6.6x4.45x2.92 mm)
pins: 1, 2

## 74455047
designator L?
SMD-Power Inductor WE-PD4, L = 4.70 µH; Inductance: 4.70 µH; DatasheetVersion: ver 2, Feb-2009; PackageVersion: 2009; PackageReference: WE-PD4-S; PackageDescription: SMD Inductor, 2-Leads, Body 6.6 x 4.45 mm; ComponentLink1Description: Manufacturer URL; ComponentLink1URL: http://www.we-online.com; ComponentLink2Description: Datasheet; ComponentLink2URL: http://www.we-online.de/katalog/media/pdf/74455047.pdf
footprint WE-PD4-S (SMD Inductor, 2-Leads, Body 6.6x4.45x2.92 mm)
pins: 1, 2

## 74455068
designator L?
SMD-Power Inductor WE-PD4, L = 6.80 µH; Inductance: 6.80 µH; DatasheetVersion: ver 2, Feb-2009; PackageVersion: 2009; PackageReference: WE-PD4-S; PackageDescription: SMD Inductor, 2-Leads, Body 6.6 x 4.45 mm; ComponentLink1Description: Manufacturer URL; ComponentLink1URL: http://www.we-online.com; ComponentLink2Description: Datasheet; ComponentLink2URL: http://www.we-online.de/katalog/media/pdf/74455068.pdf
footprint WE-PD4-S (SMD Inductor, 2-Leads, Body 6.6x4.45x2.92 mm)
pins: 1, 2

## 74455115
designator L?
SMD-Power Inductor WE-PD4, L = 15.0 µH; Inductance: 15.0 µH; DatasheetVersion: ver 2, Feb-2009; PackageVersion: 2009; PackageReference: WE-PD4-S; PackageDescription: SMD Inductor, 2-Leads, Body 6.6 x 4.45 mm; ComponentLink1Description: Manufacturer URL; ComponentLink1URL: http://www.we-online.com; ComponentLink2Description: Datasheet; ComponentLink2URL: http://www.we-online.de/katalog/media/pdf/74455115.pdf
footprint WE-PD4-S (SMD Inductor, 2-Leads, Body 6.6x4.45x2.92 mm)
pins: 1, 2

## 74455122
designator L?
SMD-Power Inductor WE-PD4, L = 22.0 µH; Inductance: 22.0 µH; DatasheetVersion: ver 2, Feb-2009; PackageVersion: 2009; PackageReference: WE-PD4-S; PackageDescription: SMD Inductor, 2-Leads, Body 6.6 x 4.45 mm; ComponentLink1Description: Manufacturer URL; ComponentLink1URL: http://www.we-online.com; ComponentLink2Description: Datasheet; ComponentLink2URL: http://www.we-online.de/katalog/media/pdf/74455122.pdf
footprint WE-PD4-S (SMD Inductor, 2-Leads, Body 6.6x4.45x2.92 mm)
pins: 1, 2

## 74455133
designator L?
SMD-Power Inductor WE-PD4, L = 33.0 µH; Inductance: 33.0 µH; DatasheetVersion: ver 2, Feb-2009; PackageVersion: 2009; PackageReference: WE-PD4-S; PackageDescription: SMD Inductor, 2-Leads, Body 6.6 x 4.45 mm; ComponentLink1Description: Manufacturer URL; ComponentLink1URL: http://www.we-online.com; ComponentLink2Description: Datasheet; ComponentLink2URL: http://www.we-online.de/katalog/media/pdf/74455133.pdf
footprint WE-PD4-S (SMD Inductor, 2-Leads, Body 6.6x4.45x2.92 mm)
pins: 1, 2

## 74455147
designator L?
SMD-Power Inductor WE-PD4, L = 47.0 µH; Inductance: 47.0 µH; DatasheetVersion: ver 2, Feb-2009; PackageVersion: 2009; PackageReference: WE-PD4-S; PackageDescription: SMD Inductor, 2-Leads, Body 6.6 x 4.45 mm; ComponentLink1Description: Manufacturer URL; ComponentLink1URL: http://www.we-online.com; ComponentLink2Description: Datasheet; ComponentLink2URL: http://www.we-online.de/katalog/media/pdf/74455147.pdf
footprint WE-PD4-S (SMD Inductor, 2-Leads, Body 6.6x4.45x2.92 mm)
pins: 1, 2

## 74455168
designator L?
SMD-Power Inductor WE-PD4, L = 68.0 µH; Inductance: 68.0 µH; DatasheetVersion: ver 2, Feb-2009; PackageVersion: 2009; PackageReference: WE-PD4-S; PackageDescription: SMD Inductor, 2-Leads, Body 6.6 x 4.45 mm; ComponentLink1Description: Manufacturer URL; ComponentLink1URL: http://www.we-online.com; ComponentLink2Description: Datasheet; ComponentLink2URL: http://www.we-online.de/katalog/media/pdf/74455168.pdf
footprint WE-PD4-S (SMD Inductor, 2-Leads, Body 6.6x4.45x2.92 mm)
pins: 1, 2

## 74455215
designator L?
SMD-Power Inductor WE-PD4, L = 150 µH; Inductance: 150 µH; DatasheetVersion: ver 2, Feb-2009; PackageVersion: 2009; PackageReference: WE-PD4-S; PackageDescription: SMD Inductor, 2-Leads, Body 6.6 x 4.45 mm; ComponentLink1Description: Manufacturer URL; ComponentLink1URL: http://www.we-online.com; ComponentLink2Description: Datasheet; ComponentLink2URL: http://www.we-online.de/katalog/media/pdf/74455215.pdf
footprint WE-PD4-S (SMD Inductor, 2-Leads, Body 6.6x4.45x2.92 mm)
pins: 1, 2

## 74455222
designator L?
SMD-Power Inductor WE-PD4, L = 220 µH; Inductance: 220 µH; DatasheetVersion: ver 2, Feb-2009; PackageVersion: 2009; PackageReference: WE-PD4-S; PackageDescription: SMD Inductor, 2-Leads, Body 6.6 x 4.45 mm; ComponentLink1Description: Manufacturer URL; ComponentLink1URL: http://www.we-online.com; ComponentLink2Description: Datasheet; ComponentLink2URL: http://www.we-online.de/katalog/media/pdf/74455222.pdf
footprint WE-PD4-S (SMD Inductor, 2-Leads, Body 6.6x4.45x2.92 mm)
pins: 1, 2

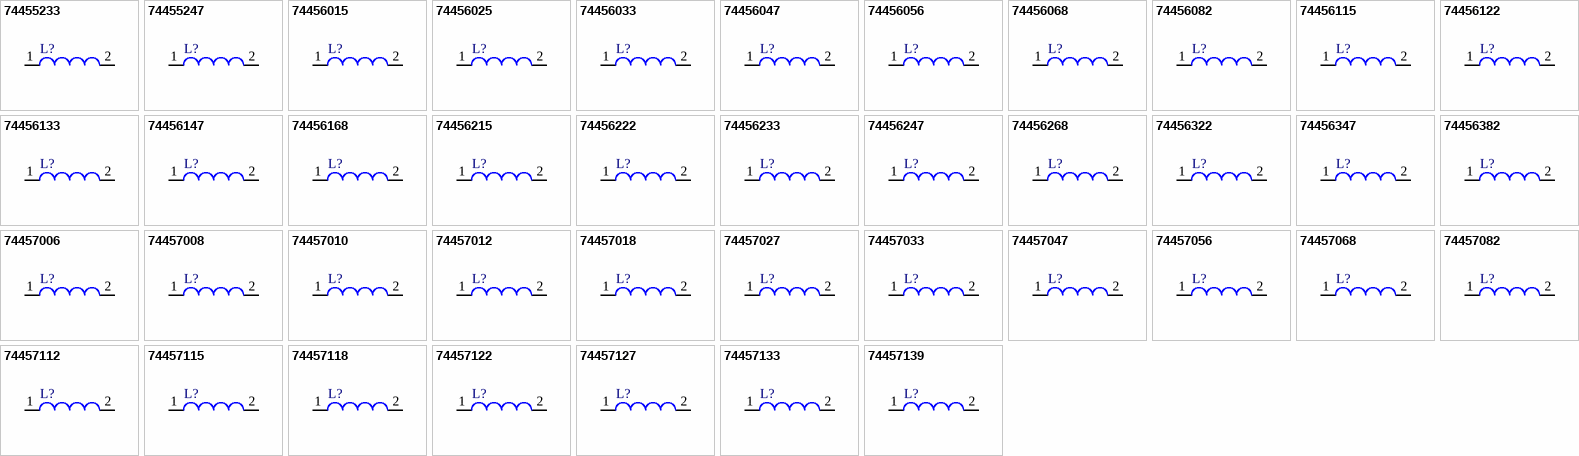
[diagram p2: symbols 74455233 to 74457139]

## 74455233
designator L?
SMD-Power Inductor WE-PD4, L = 330 µH; Inductance: 330 µH; DatasheetVersion: ver 2, Feb-2009; PackageVersion: 2009; PackageReference: WE-PD4-S; PackageDescription: SMD Inductor, 2-Leads, Body 6.6 x 4.45 mm; ComponentLink1Description: Manufacturer URL; ComponentLink1URL: http://www.we-online.com; ComponentLink2Description: Datasheet; ComponentLink2URL: http://www.we-online.de/katalog/media/pdf/74455233.pdf
footprint WE-PD4-S (SMD Inductor, 2-Leads, Body 6.6x4.45x2.92 mm)
pins: 1, 2

## 74455247
designator L?
SMD-Power Inductor WE-PD4, L = 470 µH; Inductance: 470 µH; DatasheetVersion: ver 2, Feb-2009; PackageVersion: 2009; PackageReference: WE-PD4-S; PackageDescription: SMD Inductor, 2-Leads, Body 6.6 x 4.45 mm; ComponentLink1Description: Manufacturer URL; ComponentLink1URL: http://www.we-online.com; ComponentLink2Description: Datasheet; ComponentLink2URL: http://www.we-online.de/katalog/media/pdf/74455247.pdf
footprint WE-PD4-S (SMD Inductor, 2-Leads, Body 6.6x4.45x2.92 mm)
pins: 1, 2

## 74456015
designator L?
SMD-Power Inductor WE-PD4, L = 1.50 µH; Inductance: 1.50 µH; DatasheetVersion: ver 2, Sep-2006; PackageVersion: 2006; PackageReference: WE-PD4-L; PackageDescription: SMD Inductor, 2-Leads, Body 12.7 x 10.0 mm; ComponentLink1Description: Manufacturer URL; ComponentLink1URL: http://www.we-online.com; ComponentLink2Description: Datasheet; ComponentLink2URL: http://www.we-online.de/katalog/media/pdf/74456015.pdf
footprint WE-PD4-L (SMD Inductor, 2-Leads, Body 12.7x10.0x5.3 mm)
pins: 1, 2

## 74456025
designator L?
SMD-Power Inductor WE-PD4, L = 2.50 µH; Inductance: 2.50 µH; DatasheetVersion: ver 2, Sep-2006; PackageVersion: 2006; PackageReference: WE-PD4-L; PackageDescription: SMD Inductor, 2-Leads, Body 12.7 x 10.0 mm; ComponentLink1Description: Manufacturer URL; ComponentLink1URL: http://www.we-online.com; ComponentLink2Description: Datasheet; ComponentLink2URL: http://www.we-online.de/katalog/media/pdf/74456025.pdf
footprint WE-PD4-L (SMD Inductor, 2-Leads, Body 12.7x10.0x5.3 mm)
pins: 1, 2

## 74456033
designator L?
SMD-Power Inductor WE-PD4, L = 3.30 µH; Inductance: 3.30 µH; DatasheetVersion: ver 2, Sep-2006; PackageVersion: 2006; PackageReference: WE-PD4-L; PackageDescription: SMD Inductor, 2-Leads, Body 12.7 x 10.0 mm; ComponentLink1Description: Manufacturer URL; ComponentLink1URL: http://www.we-online.com; ComponentLink2Description: Datasheet; ComponentLink2URL: http://www.we-online.de/katalog/media/pdf/74456033.pdf
footprint WE-PD4-L (SMD Inductor, 2-Leads, Body 12.7x10.0x5.3 mm)
pins: 1, 2

## 74456047
designator L?
SMD-Power Inductor WE-PD4, L = 4.70 µH; Inductance: 4.70 µH; DatasheetVersion: ver 2, Sep-2006; PackageVersion: 2006; PackageReference: WE-PD4-L; PackageDescription: SMD Inductor, 2-Leads, Body 12.7 x 10.0 mm; ComponentLink1Description: Manufacturer URL; ComponentLink1URL: http://www.we-online.com; ComponentLink2Description: Datasheet; ComponentLink2URL: http://www.we-online.de/katalog/media/pdf/74456047.pdf
footprint WE-PD4-L (SMD Inductor, 2-Leads, Body 12.7x10.0x5.3 mm)
pins: 1, 2

## 74456056
designator L?
SMD-Power Inductor WE-PD4, L = 5.60 µH; Inductance: 5.60 µH; DatasheetVersion: ver 2, Sep-2006; PackageVersion: 2006; PackageReference: WE-PD4-L; PackageDescription: SMD Inductor, 2-Leads, Body 12.7 x 10.0 mm; ComponentLink1Description: Manufacturer URL; ComponentLink1URL: http://www.we-online.com; ComponentLink2Description: Datasheet; ComponentLink2URL: http://www.we-online.de/katalog/media/pdf/74456056.pdf
footprint WE-PD4-L (SMD Inductor, 2-Leads, Body 12.7x10.0x5.3 mm)
pins: 1, 2

## 74456068
designator L?
SMD-Power Inductor WE-PD4, L = 6.80 µH; Inductance: 6.80 µH; DatasheetVersion: ver 2, Sep-2006; PackageVersion: 2006; PackageReference: WE-PD4-L; PackageDescription: SMD Inductor, 2-Leads, Body 12.7 x 10.0 mm; ComponentLink1Description: Manufacturer URL; ComponentLink1URL: http://www.we-online.com; ComponentLink2Description: Datasheet; ComponentLink2URL: http://www.we-online.de/katalog/media/pdf/74456068.pdf
footprint WE-PD4-L (SMD Inductor, 2-Leads, Body 12.7x10.0x5.3 mm)
pins: 1, 2

## 74456082
designator L?
SMD-Power Inductor WE-PD4, L = 8.20 µH; Inductance: 8.20 µH; DatasheetVersion: ver 2, Sep-2006; PackageVersion: 2006; PackageReference: WE-PD4-L; PackageDescription: SMD Inductor, 2-Leads, Body 12.7 x 10.0 mm; ComponentLink1Description: Manufacturer URL; ComponentLink1URL: http://www.we-online.com; ComponentLink2Description: Datasheet; ComponentLink2URL: http://www.we-online.de/katalog/media/pdf/74456082.pdf
footprint WE-PD4-L (SMD Inductor, 2-Leads, Body 12.7x10.0x5.3 mm)
pins: 1, 2

## 74456115
designator L?
SMD-Power Inductor WE-PD4, L = 15.0 µH; Inductance: 15.0 µH; DatasheetVersion: ver 2, Sep-2006; PackageVersion: 2006; PackageReference: WE-PD4-L; PackageDescription: SMD Inductor, 2-Leads, Body 12.7 x 10.0 mm; ComponentLink1Description: Manufacturer URL; ComponentLink1URL: http://www.we-online.com; ComponentLink2Description: Datasheet; ComponentLink2URL: http://www.we-online.de/katalog/media/pdf/74456115.pdf
footprint WE-PD4-L (SMD Inductor, 2-Leads, Body 12.7x10.0x5.3 mm)
pins: 1, 2

## 74456122
designator L?
SMD-Power Inductor WE-PD4, L = 22.0 µH; Inductance: 22.0 µH; DatasheetVersion: ver 2, Sep-2006; PackageVersion: 2006; PackageReference: WE-PD4-L; PackageDescription: SMD Inductor, 2-Leads, Body 12.7 x 10.0 mm; ComponentLink1Description: Manufacturer URL; ComponentLink1URL: http://www.we-online.com; ComponentLink2Description: Datasheet; ComponentLink2URL: http://www.we-online.de/katalog/media/pdf/74456122.pdf
footprint WE-PD4-L (SMD Inductor, 2-Leads, Body 12.7x10.0x5.3 mm)
pins: 1, 2

## 74456133
designator L?
SMD-Power Inductor WE-PD4, L = 33.0 µH; Inductance: 33.0 µH; DatasheetVersion: ver 2, Sep-2006; PackageVersion: 2006; PackageReference: WE-PD4-L; PackageDescription: SMD Inductor, 2-Leads, Body 12.7 x 10.0 mm; ComponentLink1Description: Manufacturer URL; ComponentLink1URL: http://www.we-online.com; ComponentLink2Description: Datasheet; ComponentLink2URL: http://www.we-online.de/katalog/media/pdf/74456133.pdf
footprint WE-PD4-L (SMD Inductor, 2-Leads, Body 12.7x10.0x5.3 mm)
pins: 1, 2

## 74456147
designator L?
SMD-Power Inductor WE-PD4, L = 47.0 µH; Inductance: 47.0 µH; DatasheetVersion: ver 2, Sep-2006; PackageVersion: 2006; PackageReference: WE-PD4-L; PackageDescription: SMD Inductor, 2-Leads, Body 12.7 x 10.0 mm; ComponentLink1Description: Manufacturer URL; ComponentLink1URL: http://www.we-online.com; ComponentLink2Description: Datasheet; ComponentLink2URL: http://www.we-online.de/katalog/media/pdf/74456147.pdf
footprint WE-PD4-L (SMD Inductor, 2-Leads, Body 12.7x10.0x5.3 mm)
pins: 1, 2

## 74456168
designator L?
SMD-Power Inductor WE-PD4, L = 68.0 µH; Inductance: 68.0 µH; DatasheetVersion: ver 2, Sep-2006; PackageVersion: 2006; PackageReference: WE-PD4-L; PackageDescription: SMD Inductor, 2-Leads, Body 12.7 x 10.0 mm; ComponentLink1Description: Manufacturer URL; ComponentLink1URL: http://www.we-online.com; ComponentLink2Description: Datasheet; ComponentLink2URL: http://www.we-online.de/katalog/media/pdf/74456168.pdf
footprint WE-PD4-L (SMD Inductor, 2-Leads, Body 12.7x10.0x5.3 mm)
pins: 1, 2

## 74456215
designator L?
SMD-Power Inductor WE-PD4, L = 150 µH; Inductance: 150 µH; DatasheetVersion: ver 2, Sep-2006; PackageVersion: 2006; PackageReference: WE-PD4-L; PackageDescription: SMD Inductor, 2-Leads, Body 12.7 x 10.0 mm; ComponentLink1Description: Manufacturer URL; ComponentLink1URL: http://www.we-online.com; ComponentLink2Description: Datasheet; ComponentLink2URL: http://www.we-online.de/katalog/media/pdf/74456215.pdf
footprint WE-PD4-L (SMD Inductor, 2-Leads, Body 12.7x10.0x5.3 mm)
pins: 1, 2